# Altium schematic symbol library lcdtft_controller.SchLib: 10 symbols
Pins are listed as number, name and electrical type; pins without a type are passive.

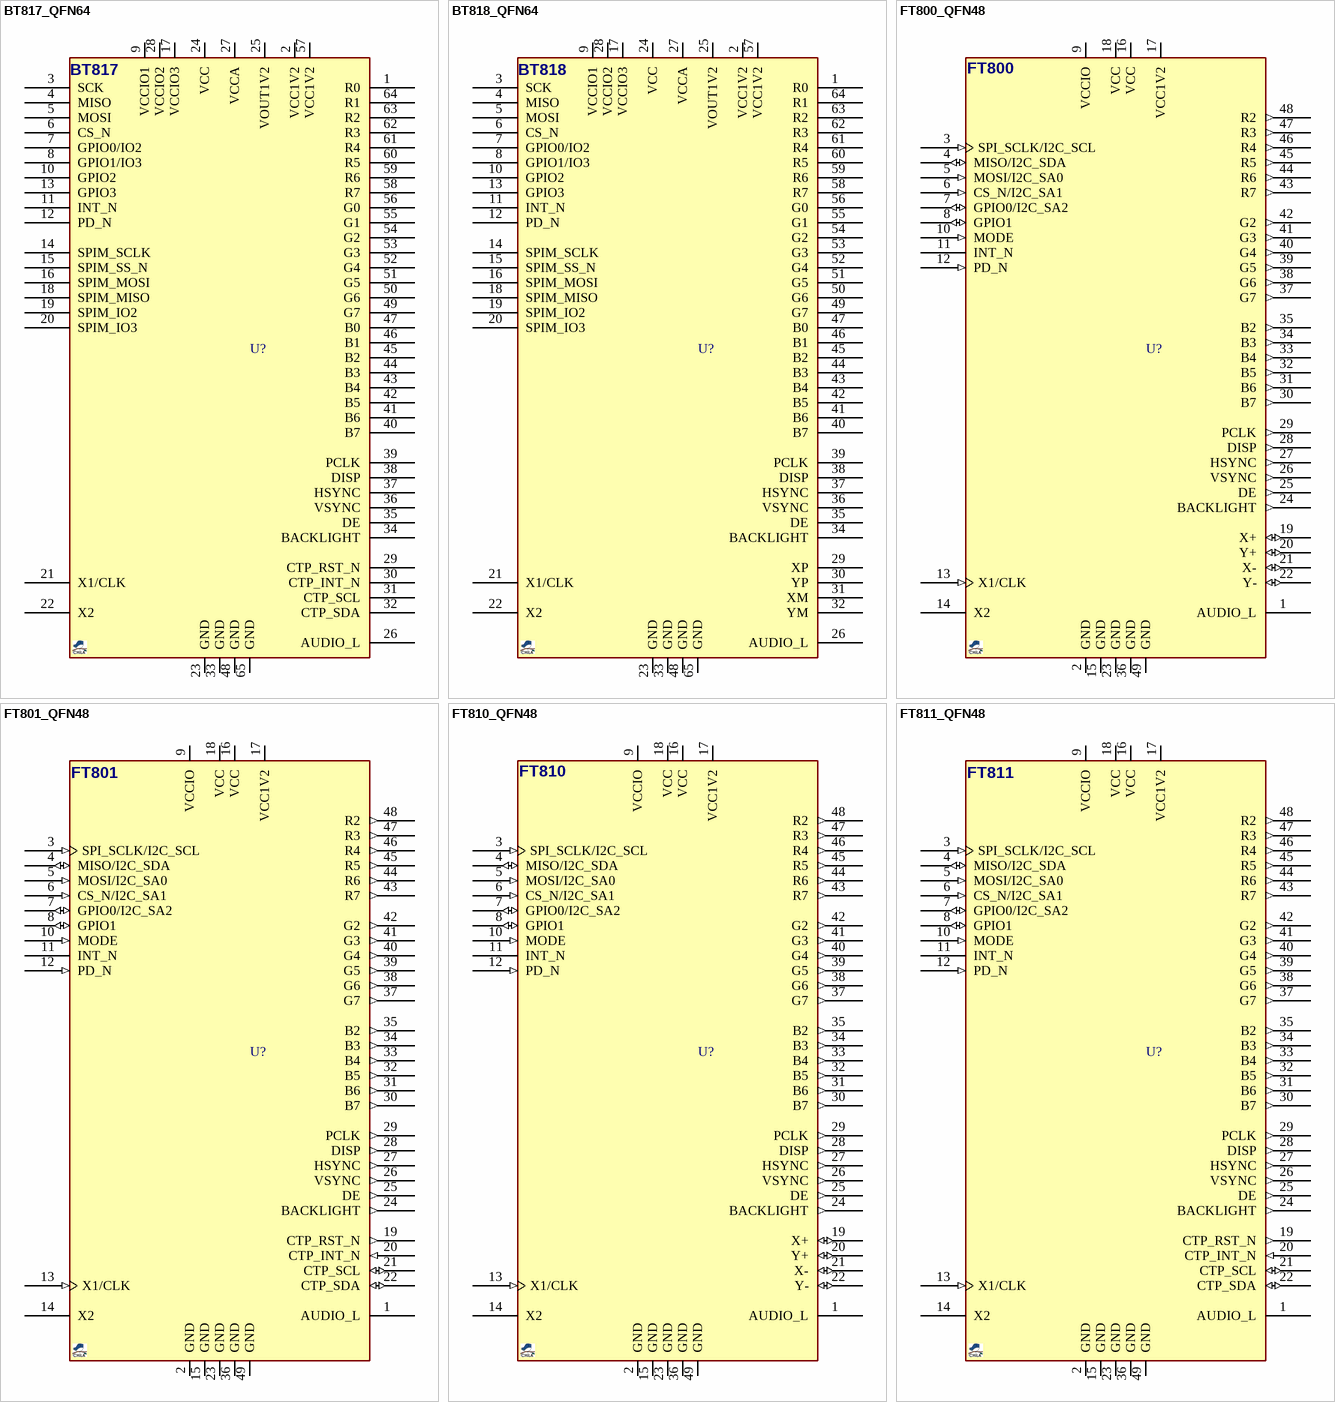
[diagram p0: symbols BT817_QFN64 to FT811_QFN48]

## BT817_QFN64
designator U?, comment BT817  (value not drawn)
LCD Display Controller, Embedded Video Engine, 1280X800, QFN-64; MANF: FTDI/Bridgetek; MANF_P#: BT817Q; PARAM2: 1.8~3.3Vcc; PARAM: -40~85°C; PRICE: 5$; VALUE: BT817
footprint QFN50_64T (LFCSP_VQ, MO-220-VMMD-4, MO-220-WNJR-5(JEDEC), RGC S-PQFP-N64 (TI), 9X9mm, 0.5mm)
pins: 1 R0, 2 VCC1V2, 3 SCK, 4 MISO, 5 MOSI, 6 CS_N, 7 GPIO0/IO2, 8 GPIO1/IO3, 9 VCCIO1, 10 GPIO2, 11 INT_N, 12 PD_N, 13 GPIO3, 14 SPIM_SCLK, 15 SPIM_SS_N, 16 SPIM_MOSI, 17 VCCIO3, 18 SPIM_MISO, 19 SPIM_IO2, 20 SPIM_IO3, 21 X1/CLK, 22 X2, 23 GND, 24 VCC, 25 VOUT1V2, 26 AUDIO_L, 27 VCCA, 28 VCCIO2, 29 CTP_RST_N, 30 CTP_INT_N, 31 CTP_SCL, 32 CTP_SDA, 33 GND, 34 BACKLIGHT, 35 DE, 36 VSYNC, 37 HSYNC, 38 DISP, 39 PCLK, 40 B7, 41 B6, 42 B5, 43 B4, 44 B3, 45 B2, 46 B1, 47 B0, 48 GND, 49 G7, 50 G6, 51 G5, 52 G4, 53 G3, 54 G2, 55 G1, 56 G0, 57 VCC1V2, 58 R7, 59 R6, 60 R5, 61 R4, 62 R3, 63 R2, 64 R1, 65 GND

## BT818_QFN64
designator U?, comment BT818  (value not drawn)
LCD Display Controller, Embedded Video Engine, 1280X800, QFN-64; MANF: FTDI/Bridgetek; MANF_P#: BT818Q; PARAM2: 1.8~3.3Vcc; PARAM: -40~85°C; PRICE: 5$; VALUE: BT818
footprint QFN50_64T (LFCSP_VQ, MO-220-VMMD-4, MO-220-WNJR-5(JEDEC), RGC S-PQFP-N64 (TI), 9X9mm, 0.5mm)
pins: 1 R0, 2 VCC1V2, 3 SCK, 4 MISO, 5 MOSI, 6 CS_N, 7 GPIO0/IO2, 8 GPIO1/IO3, 9 VCCIO1, 10 GPIO2, 11 INT_N, 12 PD_N, 13 GPIO3, 14 SPIM_SCLK, 15 SPIM_SS_N, 16 SPIM_MOSI, 17 VCCIO3, 18 SPIM_MISO, 19 SPIM_IO2, 20 SPIM_IO3, 21 X1/CLK, 22 X2, 23 GND, 24 VCC, 25 VOUT1V2, 26 AUDIO_L, 27 VCCA, 28 VCCIO2, 29 XP, 30 YP, 31 XM, 32 YM, 33 GND, 34 BACKLIGHT, 35 DE, 36 VSYNC, 37 HSYNC, 38 DISP, 39 PCLK, 40 B7, 41 B6, 42 B5, 43 B4, 44 B3, 45 B2, 46 B1, 47 B0, 48 GND, 49 G7, 50 G6, 51 G5, 52 G4, 53 G3, 54 G2, 55 G1, 56 G0, 57 VCC1V2, 58 R7, 59 R6, 60 R5, 61 R4, 62 R3, 63 R2, 64 R1, 65 GND

## FT800_QFN48
designator U?, comment FT800  (value not drawn)
LCD Display Controller, Embedded Video Engine, QFN-48; MANF: FTDI/Bridgetek; MANF_P#: FT800Q; PARAM2: 1.8~3.3Vcc; PARAM: -40~85°C; PRICE: 5$; VALUE: FT800
footprint QFN50_48T (CP-48, UFQFPN48, RGZ S-PQFP-N48, S-PWQFN-N48, MO-220-VKKD-2(JEDEC), 7X7mm, 0.5mm)
pins: 1 AUDIO_L (hiz) "Audio PWM out, push-pull output, 16mA sink/source current. Pad powered from pin VCC.", 2 GND (power) "Ground", 3 SPI_SCLK/I2C_SCL (in), 4 MISO/I2C_SDA (io), 5 MOSI/I2C_SA0 (in), 6 CS_N/I2C_SA1 (in), 7 GPIO0/I2C_SA2 (io), 8 GPIO1 (io) "General purpose input, output port. Push-pull, three-state output. 3.3V tolerant, 4/8/12/16mA sink/source current. Pad powered from pin VCCIO.", 9 VCCIO (power) "I/O power supply, connect a 0.1uF decoupling capacitor. Support 1.8V, 2.5V or 3.3V.", 10 MODE (in) "Host interface SPI(pull low) or I2C(pull up) mode select input, 3.3V tolerant. Pad powered from pin VCCIO.", 11 INT_N (hiz) "Host Interrupt, open drain output, active low, pull up to VCCIO through a 1kOhm ~10kOhm resistor.", 12 PD_N (in) "Power down input, active low, 3.3V tolerant, pull up to VCCIO through 47kOhm resistor and 100nF to ground. Pad powered from pin VCCIO.", 13 X1/CLK (in), 14 X2 "Crystal oscillator output; leave open if not used. Pad powered from pin VCC.", 15 GND (power) "Ground", 16 VCC (power) "3.3V power supply input.", 17 VCC1V2 (power) "1.2V regulator output pin. Connect a 4.7uF decoupling capacitor to GND.", 18 VCC (power) "3.3V power supply input.", 19 X+ (io) "Connect to X right electrode of 4-wire touch-screen panel. Pad powered from pin VCC.", 20 Y+ (io) "Connect to Y top electrode of 4-wire touch-screen panel. Pad powered from pin VCC.", 21 X- (io) "Connect to X left electrode of 4-wire touch-screen panel. Pad powered from pin VCC.", 22 Y- (io) "Connect to Y bottom electrode of 4-wire touch-screen panel. Pad powered from pin VCC.", 23 GND (power) "Ground", 24 BACKLIGHT (out) "LED Backlight brightness PWM control signal, push-pull output, 4/8mA sink/source current. Pad powered from pin VCC.", 25 DE (out) "LCD Data Enable, push-pull output, 4/8mA sink/source current. Pad powered from pin VCC.", 26 VSYNC (out) "LCD Vertical Sync, push-pull output, 4/8mA sink/source current. Pad powered from pin VCC.", 27 HSYNC (out) "LCD Horizontal Sync, push-pull output, 4/8mA sink/source current. Pad powered from pin VCC.", 28 DISP (out) "General purpose output pin for LCD Display Enable, push-pull output, 4/8mA sink/source current. Control by writing to Bit 7 of REG_GPIO register. Pad powered from pin VCC.", 29 PCLK (out) "LCD Pixel Clock, push-pull output, 4/8mA sink/source current. Pad powered from pin VCC.", 30 B7 (out) "Bit 7 of Blue RGB signals, push-pull output, 4/8mA sink/source current. Pad powered from pin VCC.", 31 B6 (out) "Bit 6 of Blue RGB signals, push-pull output, 4/8mA sink/source current. Pad powered from pin VCC.", 32 B5 (out) "Bit 5 of Blue RGB signals, push-pull output, 4/8mA sink/source current. Pad powered from pin VCC.", 33 B4 (out) "Bit 4 of Blue RGB signals, push-pull output, 4/8mA sink/source current. Pad powered from pin VCC.", 34 B3 (out) "Bit 3 of Blue RGB signals, push-pull output, 4/8mA sink/source current. Pad powered from pin VCC.", 35 B2 (out) "Bit 2 of Blue RGB signals, push-pull output, 4/8mA sink/source current. Pad powered from pin VCC.", 36 GND (power) "Ground", 37 G7 (out) "Bit 7 of Green RGB signals, push-pull output, 4/8mA sink/source current. Pad powered from pin VCC.", 38 G6 (out) "Bit 6 of Green RGB signals, push-pull output, 4/8mA sink/source current. Pad powered from pin VCC.", 39 G5 (out) "Bit 5 of Green RGB signals, push-pull output, 4/8mA sink/source current. Pad powered from pin VCC.", 40 G4 (out) "Bit 4 of Green RGB signals, push-pull output, 4/8mA sink/source current. Pad powered from pin VCC.", 41 G3 (out) "Bit 3 of Green RGB signals, push-pull output, 4/8mA sink/source current. Pad powered from pin VCC.", 42 G2 (out) "Bit 2 of Green RGB signals, push-pull output, 4/8mA sink/source current. Pad powered from pin VCC.", 43 R7 (out) "Bit 7 of Red RGB signals, push-pull output, 4/8mA sink/source current. Pad powered from pin VCC.", 44 R6 (out) "Bit 6 of Red RGB signals, push-pull output, 4/8mA sink/source current. Pad powered from pin VCC.", 45 R5 (out) "Bit 5 of Red RGB signals, push-pull output, 4/8mA sink/source current. Pad powered from pin VCC.", 46 R4 (out) "Bit 4 of Red RGB signals, push-pull output, 4/8mA sink/source current. Pad powered from pin VCC.", 47 R3 (out) "Bit 3 of Red RGB signals, push-pull output, 4/8mA sink/source current. Pad powered from pin VCC.", 48 R2 (out) "Bit 2 of Red RGB signals, push-pull output, 4/8mA sink/source current. Pad powered from pin VCC.", 49 GND (power) "Ground. Exposed thermal pad."

## FT801_QFN48
designator U?, comment FT801  (value not drawn)
LCD Display Controller, Embedded Video Engine, QFN-48; MANF: FTDI/Bridgetek; MANF_P#: FT801Q; PARAM2: 1.8~3.3Vcc; PARAM: -40~85°C; PRICE: 5$; VALUE: FT801
footprint QFN50_48T (CP-48, UFQFPN48, RGZ S-PQFP-N48, S-PWQFN-N48, MO-220-VKKD-2(JEDEC), 7X7mm, 0.5mm)
pins: 1 AUDIO_L (hiz) "Audio PWM out, push-pull output, 16mA sink/source current. Pad powered from pin VCC.", 2 GND (power) "Ground", 3 SPI_SCLK/I2C_SCL (in), 4 MISO/I2C_SDA (io), 5 MOSI/I2C_SA0 (in), 6 CS_N/I2C_SA1 (in), 7 GPIO0/I2C_SA2 (io), 8 GPIO1 (io) "General purpose input, output port. Push-pull, three-state output. 3.3V tolerant, 4/8/12/16mA sink/source current. Pad powered from pin VCCIO.", 9 VCCIO (power) "I/O power supply, connect a 0.1uF decoupling capacitor. Support 1.8V, 2.5V or 3.3V.", 10 MODE (in) "Host interface SPI(pull low) or I2C(pull up) mode select input, 3.3V tolerant. Pad powered from pin VCCIO.", 11 INT_N (hiz) "Host Interrupt, open drain output, active low, pull up to VCCIO through a 1kOhm ~10kOhm resistor.", 12 PD_N (in) "Power down input, active low, 3.3V tolerant, pull up to VCCIO through 47kOhm resistor and 100nF to ground. Pad powered from pin VCCIO.", 13 X1/CLK (in), 14 X2 "Crystal oscillator output; leave open if not used. Pad powered from pin VCC.", 15 GND (power) "Ground", 16 VCC (power) "3.3V power supply input.", 17 VCC1V2 (power) "1.2V regulator output pin. Connect a 4.7uF decoupling capacitor to GND.", 18 VCC (power) "3.3V power supply input.", 19 CTP_RST_N (out) "Connect to X right electrode of 4-wire touch-screen panel. Pad powered from pin VCC.", 20 CTP_INT_N (in) "Connect to Y top electrode of 4-wire touch-screen panel. Pad powered from pin VCC.", 21 CTP_SCL (io) "Connect to X left electrode of 4-wire touch-screen panel. Pad powered from pin VCC.", 22 CTP_SDA (io) "Connect to Y bottom electrode of 4-wire touch-screen panel. Pad powered from pin VCC.", 23 GND (power) "Ground", 24 BACKLIGHT (out) "LED Backlight brightness PWM control signal, push-pull output, 4/8mA sink/source current. Pad powered from pin VCC.", 25 DE (out) "LCD Data Enable, push-pull output, 4/8mA sink/source current. Pad powered from pin VCC.", 26 VSYNC (out) "LCD Vertical Sync, push-pull output, 4/8mA sink/source current. Pad powered from pin VCC.", 27 HSYNC (out) "LCD Horizontal Sync, push-pull output, 4/8mA sink/source current. Pad powered from pin VCC.", 28 DISP (out) "General purpose output pin for LCD Display Enable, push-pull output, 4/8mA sink/source current. Control by writing to Bit 7 of REG_GPIO register. Pad powered from pin VCC.", 29 PCLK (out) "LCD Pixel Clock, push-pull output, 4/8mA sink/source current. Pad powered from pin VCC.", 30 B7 (out) "Bit 7 of Blue RGB signals, push-pull output, 4/8mA sink/source current. Pad powered from pin VCC.", 31 B6 (out) "Bit 6 of Blue RGB signals, push-pull output, 4/8mA sink/source current. Pad powered from pin VCC.", 32 B5 (out) "Bit 5 of Blue RGB signals, push-pull output, 4/8mA sink/source current. Pad powered from pin VCC.", 33 B4 (out) "Bit 4 of Blue RGB signals, push-pull output, 4/8mA sink/source current. Pad powered from pin VCC.", 34 B3 (out) "Bit 3 of Blue RGB signals, push-pull output, 4/8mA sink/source current. Pad powered from pin VCC.", 35 B2 (out) "Bit 2 of Blue RGB signals, push-pull output, 4/8mA sink/source current. Pad powered from pin VCC.", 36 GND (power) "Ground", 37 G7 (out) "Bit 7 of Green RGB signals, push-pull output, 4/8mA sink/source current. Pad powered from pin VCC.", 38 G6 (out) "Bit 6 of Green RGB signals, push-pull output, 4/8mA sink/source current. Pad powered from pin VCC.", 39 G5 (out) "Bit 5 of Green RGB signals, push-pull output, 4/8mA sink/source current. Pad powered from pin VCC.", 40 G4 (out) "Bit 4 of Green RGB signals, push-pull output, 4/8mA sink/source current. Pad powered from pin VCC.", 41 G3 (out) "Bit 3 of Green RGB signals, push-pull output, 4/8mA sink/source current. Pad powered from pin VCC.", 42 G2 (out) "Bit 2 of Green RGB signals, push-pull output, 4/8mA sink/source current. Pad powered from pin VCC.", 43 R7 (out) "Bit 7 of Red RGB signals, push-pull output, 4/8mA sink/source current. Pad powered from pin VCC.", 44 R6 (out) "Bit 6 of Red RGB signals, push-pull output, 4/8mA sink/source current. Pad powered from pin VCC.", 45 R5 (out) "Bit 5 of Red RGB signals, push-pull output, 4/8mA sink/source current. Pad powered from pin VCC.", 46 R4 (out) "Bit 4 of Red RGB signals, push-pull output, 4/8mA sink/source current. Pad powered from pin VCC.", 47 R3 (out) "Bit 3 of Red RGB signals, push-pull output, 4/8mA sink/source current. Pad powered from pin VCC.", 48 R2 (out) "Bit 2 of Red RGB signals, push-pull output, 4/8mA sink/source current. Pad powered from pin VCC.", 49 GND (power) "Ground. Exposed thermal pad."

## FT810_QFN48
designator U?, comment FT810  (value not drawn)
LCD Display Controller, Embedded Video Engine, QFN-48; MANF: FTDI/Bridgetek; MANF_P#: FT810Q; PARAM2: 1.8~3.3Vcc; PARAM: -40~85°C; PRICE: 5$; VALUE: FT810
footprint QFN50_48T (CP-48, UFQFPN48, RGZ S-PQFP-N48, S-PWQFN-N48, MO-220-VKKD-2(JEDEC), 7X7mm, 0.5mm)
pins: 1 AUDIO_L (hiz) "Audio PWM out, push-pull output, 16mA sink/source current. Pad powered from pin VCC.", 2 GND (power) "Ground", 3 SPI_SCLK/I2C_SCL (in), 4 MISO/I2C_SDA (io), 5 MOSI/I2C_SA0 (in), 6 CS_N/I2C_SA1 (in), 7 GPIO0/I2C_SA2 (io), 8 GPIO1 (io) "General purpose input, output port. Push-pull, three-state output. 3.3V tolerant, 4/8/12/16mA sink/source current. Pad powered from pin VCCIO.", 9 VCCIO (power) "I/O power supply, connect a 0.1uF decoupling capacitor. Support 1.8V, 2.5V or 3.3V.", 10 MODE (in) "Host interface SPI(pull low) or I2C(pull up) mode select input, 3.3V tolerant. Pad powered from pin VCCIO.", 11 INT_N (hiz) "Host Interrupt, open drain output, active low, pull up to VCCIO through a 1kOhm ~10kOhm resistor.", 12 PD_N (in) "Power down input, active low, 3.3V tolerant, pull up to VCCIO through 47kOhm resistor and 100nF to ground. Pad powered from pin VCCIO.", 13 X1/CLK (in), 14 X2 "Crystal oscillator output; leave open if not used. Pad powered from pin VCC.", 15 GND (power) "Ground", 16 VCC (power) "3.3V power supply input.", 17 VCC1V2 (power) "1.2V regulator output pin. Connect a 4.7uF decoupling capacitor to GND.", 18 VCC (power) "3.3V power supply input.", 19 X+ (io) "Connect to X right electrode of 4-wire touch-screen panel. Pad powered from pin VCC.", 20 Y+ (io) "Connect to Y top electrode of 4-wire touch-screen panel. Pad powered from pin VCC.", 21 X- (io) "Connect to X left electrode of 4-wire touch-screen panel. Pad powered from pin VCC.", 22 Y- (io) "Connect to Y bottom electrode of 4-wire touch-screen panel. Pad powered from pin VCC.", 23 GND (power) "Ground", 24 BACKLIGHT (out) "LED Backlight brightness PWM control signal, push-pull output, 4/8mA sink/source current. Pad powered from pin VCC.", 25 DE (out) "LCD Data Enable, push-pull output, 4/8mA sink/source current. Pad powered from pin VCC.", 26 VSYNC (out) "LCD Vertical Sync, push-pull output, 4/8mA sink/source current. Pad powered from pin VCC.", 27 HSYNC (out) "LCD Horizontal Sync, push-pull output, 4/8mA sink/source current. Pad powered from pin VCC.", 28 DISP (out) "General purpose output pin for LCD Display Enable, push-pull output, 4/8mA sink/source current. Control by writing to Bit 7 of REG_GPIO register. Pad powered from pin VCC.", 29 PCLK (out) "LCD Pixel Clock, push-pull output, 4/8mA sink/source current. Pad powered from pin VCC.", 30 B7 (out) "Bit 7 of Blue RGB signals, push-pull output, 4/8mA sink/source current. Pad powered from pin VCC.", 31 B6 (out) "Bit 6 of Blue RGB signals, push-pull output, 4/8mA sink/source current. Pad powered from pin VCC.", 32 B5 (out) "Bit 5 of Blue RGB signals, push-pull output, 4/8mA sink/source current. Pad powered from pin VCC.", 33 B4 (out) "Bit 4 of Blue RGB signals, push-pull output, 4/8mA sink/source current. Pad powered from pin VCC.", 34 B3 (out) "Bit 3 of Blue RGB signals, push-pull output, 4/8mA sink/source current. Pad powered from pin VCC.", 35 B2 (out) "Bit 2 of Blue RGB signals, push-pull output, 4/8mA sink/source current. Pad powered from pin VCC.", 36 GND (power) "Ground", 37 G7 (out) "Bit 7 of Green RGB signals, push-pull output, 4/8mA sink/source current. Pad powered from pin VCC.", 38 G6 (out) "Bit 6 of Green RGB signals, push-pull output, 4/8mA sink/source current. Pad powered from pin VCC.", 39 G5 (out) "Bit 5 of Green RGB signals, push-pull output, 4/8mA sink/source current. Pad powered from pin VCC.", 40 G4 (out) "Bit 4 of Green RGB signals, push-pull output, 4/8mA sink/source current. Pad powered from pin VCC.", 41 G3 (out) "Bit 3 of Green RGB signals, push-pull output, 4/8mA sink/source current. Pad powered from pin VCC.", 42 G2 (out) "Bit 2 of Green RGB signals, push-pull output, 4/8mA sink/source current. Pad powered from pin VCC.", 43 R7 (out) "Bit 7 of Red RGB signals, push-pull output, 4/8mA sink/source current. Pad powered from pin VCC.", 44 R6 (out) "Bit 6 of Red RGB signals, push-pull output, 4/8mA sink/source current. Pad powered from pin VCC.", 45 R5 (out) "Bit 5 of Red RGB signals, push-pull output, 4/8mA sink/source current. Pad powered from pin VCC.", 46 R4 (out) "Bit 4 of Red RGB signals, push-pull output, 4/8mA sink/source current. Pad powered from pin VCC.", 47 R3 (out) "Bit 3 of Red RGB signals, push-pull output, 4/8mA sink/source current. Pad powered from pin VCC.", 48 R2 (out) "Bit 2 of Red RGB signals, push-pull output, 4/8mA sink/source current. Pad powered from pin VCC.", 49 GND (power) "Ground. Exposed thermal pad."

## FT811_QFN48
designator U?, comment FT811  (value not drawn)
LCD Display Controller, Embedded Video Engine, QFN-48; MANF: FTDI/Bridgetek; MANF_P#: FT811Q; PARAM2: 1.8~3.3Vcc; PARAM: -40~85°C; PRICE: 5$; VALUE: FT811
footprint QFN50_48T (CP-48, UFQFPN48, RGZ S-PQFP-N48, S-PWQFN-N48, MO-220-VKKD-2(JEDEC), 7X7mm, 0.5mm)
pins: 1 AUDIO_L (hiz) "Audio PWM out, push-pull output, 16mA sink/source current. Pad powered from pin VCC.", 2 GND (power) "Ground", 3 SPI_SCLK/I2C_SCL (in), 4 MISO/I2C_SDA (io), 5 MOSI/I2C_SA0 (in), 6 CS_N/I2C_SA1 (in), 7 GPIO0/I2C_SA2 (io), 8 GPIO1 (io) "General purpose input, output port. Push-pull, three-state output. 3.3V tolerant, 4/8/12/16mA sink/source current. Pad powered from pin VCCIO.", 9 VCCIO (power) "I/O power supply, connect a 0.1uF decoupling capacitor. Support 1.8V, 2.5V or 3.3V.", 10 MODE (in) "Host interface SPI(pull low) or I2C(pull up) mode select input, 3.3V tolerant. Pad powered from pin VCCIO.", 11 INT_N (hiz) "Host Interrupt, open drain output, active low, pull up to VCCIO through a 1kOhm ~10kOhm resistor.", 12 PD_N (in) "Power down input, active low, 3.3V tolerant, pull up to VCCIO through 47kOhm resistor and 100nF to ground. Pad powered from pin VCCIO.", 13 X1/CLK (in), 14 X2 "Crystal oscillator output; leave open if not used. Pad powered from pin VCC.", 15 GND (power) "Ground", 16 VCC (power) "3.3V power supply input.", 17 VCC1V2 (power) "1.2V regulator output pin. Connect a 4.7uF decoupling capacitor to GND.", 18 VCC (power) "3.3V power supply input.", 19 CTP_RST_N (out) "Connect to X right electrode of 4-wire touch-screen panel. Pad powered from pin VCC.", 20 CTP_INT_N (in) "Connect to Y top electrode of 4-wire touch-screen panel. Pad powered from pin VCC.", 21 CTP_SCL (io) "Connect to X left electrode of 4-wire touch-screen panel. Pad powered from pin VCC.", 22 CTP_SDA (io) "Connect to Y bottom electrode of 4-wire touch-screen panel. Pad powered from pin VCC.", 23 GND (power) "Ground", 24 BACKLIGHT (out) "LED Backlight brightness PWM control signal, push-pull output, 4/8mA sink/source current. Pad powered from pin VCC.", 25 DE (out) "LCD Data Enable, push-pull output, 4/8mA sink/source current. Pad powered from pin VCC.", 26 VSYNC (out) "LCD Vertical Sync, push-pull output, 4/8mA sink/source current. Pad powered from pin VCC.", 27 HSYNC (out) "LCD Horizontal Sync, push-pull output, 4/8mA sink/source current. Pad powered from pin VCC.", 28 DISP (out) "General purpose output pin for LCD Display Enable, push-pull output, 4/8mA sink/source current. Control by writing to Bit 7 of REG_GPIO register. Pad powered from pin VCC.", 29 PCLK (out) "LCD Pixel Clock, push-pull output, 4/8mA sink/source current. Pad powered from pin VCC.", 30 B7 (out) "Bit 7 of Blue RGB signals, push-pull output, 4/8mA sink/source current. Pad powered from pin VCC.", 31 B6 (out) "Bit 6 of Blue RGB signals, push-pull output, 4/8mA sink/source current. Pad powered from pin VCC.", 32 B5 (out) "Bit 5 of Blue RGB signals, push-pull output, 4/8mA sink/source current. Pad powered from pin VCC.", 33 B4 (out) "Bit 4 of Blue RGB signals, push-pull output, 4/8mA sink/source current. Pad powered from pin VCC.", 34 B3 (out) "Bit 3 of Blue RGB signals, push-pull output, 4/8mA sink/source current. Pad powered from pin VCC.", 35 B2 (out) "Bit 2 of Blue RGB signals, push-pull output, 4/8mA sink/source current. Pad powered from pin VCC.", 36 GND (power) "Ground", 37 G7 (out) "Bit 7 of Green RGB signals, push-pull output, 4/8mA sink/source current. Pad powered from pin VCC.", 38 G6 (out) "Bit 6 of Green RGB signals, push-pull output, 4/8mA sink/source current. Pad powered from pin VCC.", 39 G5 (out) "Bit 5 of Green RGB signals, push-pull output, 4/8mA sink/source current. Pad powered from pin VCC.", 40 G4 (out) "Bit 4 of Green RGB signals, push-pull output, 4/8mA sink/source current. Pad powered from pin VCC.", 41 G3 (out) "Bit 3 of Green RGB signals, push-pull output, 4/8mA sink/source current. Pad powered from pin VCC.", 42 G2 (out) "Bit 2 of Green RGB signals, push-pull output, 4/8mA sink/source current. Pad powered from pin VCC.", 43 R7 (out) "Bit 7 of Red RGB signals, push-pull output, 4/8mA sink/source current. Pad powered from pin VCC.", 44 R6 (out) "Bit 6 of Red RGB signals, push-pull output, 4/8mA sink/source current. Pad powered from pin VCC.", 45 R5 (out) "Bit 5 of Red RGB signals, push-pull output, 4/8mA sink/source current. Pad powered from pin VCC.", 46 R4 (out) "Bit 4 of Red RGB signals, push-pull output, 4/8mA sink/source current. Pad powered from pin VCC.", 47 R3 (out) "Bit 3 of Red RGB signals, push-pull output, 4/8mA sink/source current. Pad powered from pin VCC.", 48 R2 (out) "Bit 2 of Red RGB signals, push-pull output, 4/8mA sink/source current. Pad powered from pin VCC.", 49 GND (power) "Ground. Exposed thermal pad."

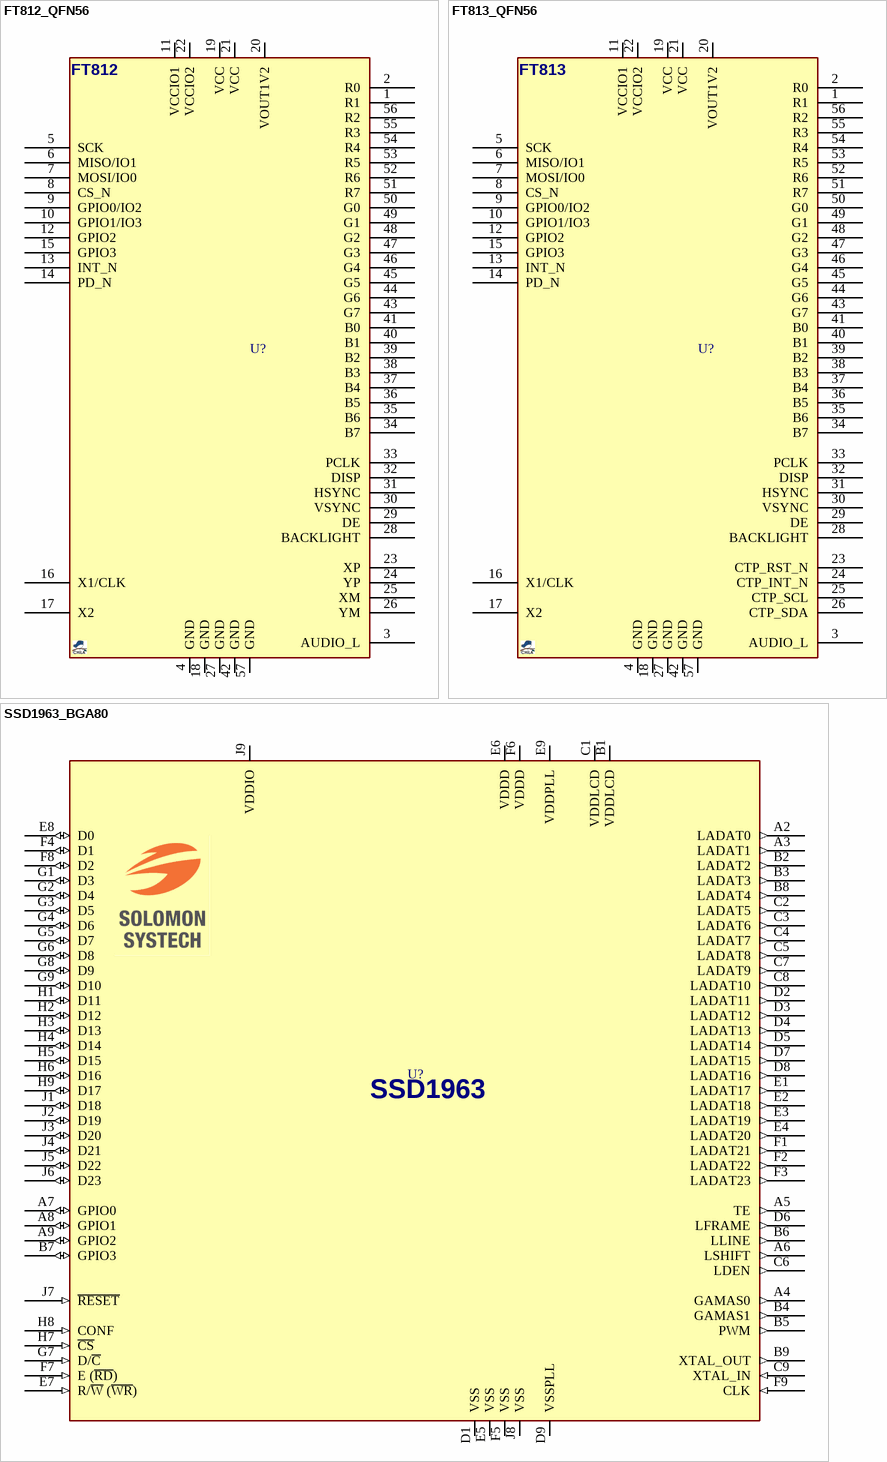
[diagram p1: symbols FT812_QFN56 to SSD1963_BGA80]

## FT812_QFN56
designator U?, comment FT812  (value not drawn)
LCD Display Controller, Embedded Video Engine, QFN-56; MANF: FTDI/Bridgetek; MANF_P#: FT812Q; PARAM2: 1.8~3.3Vcc; PARAM: -40~85°C; PRICE: 5$; VALUE: FT812
footprint QFN50_56T (QFN56, pitch: 0.5mm, 8x8mm)
pins: 1 R1, 2 R0, 3 AUDIO_L, 4 GND, 5 SCK, 6 MISO/IO1, 7 MOSI/IO0, 8 CS_N, 9 GPIO0/IO2, 10 GPIO1/IO3, 11 VCCIO1, 12 GPIO2, 13 INT_N, 14 PD_N, 15 GPIO3, 16 X1/CLK, 17 X2, 18 GND, 19 VCC, 20 VOUT1V2, 21 VCC, 22 VCCIO2, 23 XP, 24 YP, 25 XM, 26 YM, 27 GND, 28 BACKLIGHT, 29 DE, 30 VSYNC, 31 HSYNC, 32 DISP, 33 PCLK, 34 B7, 35 B6, 36 B5, 37 B4, 38 B3, 39 B2, 40 B1, 41 B0, 42 GND, 43 G7, 44 G6, 45 G5, 46 G4, 47 G3, 48 G2, 49 G1, 50 G0, 51 R7, 52 R6, 53 R5, 54 R4, 55 R3, 56 R2, 57 GND

## FT813_QFN56
designator U?, comment FT813  (value not drawn)
LCD Display Controller, Embedded Video Engine, QFN-56; MANF: FTDI/Bridgetek; MANF_P#: FT813Q; PARAM2: 1.8~3.3Vcc; PARAM: -40~85°C; PRICE: 5$; VALUE: FT813
footprint QFN50_56T (QFN56, pitch: 0.5mm, 8x8mm)
pins: 1 R1, 2 R0, 3 AUDIO_L, 4 GND, 5 SCK, 6 MISO/IO1, 7 MOSI/IO0, 8 CS_N, 9 GPIO0/IO2, 10 GPIO1/IO3, 11 VCCIO1, 12 GPIO2, 13 INT_N, 14 PD_N, 15 GPIO3, 16 X1/CLK, 17 X2, 18 GND, 19 VCC, 20 VOUT1V2, 21 VCC, 22 VCCIO2, 23 CTP_RST_N, 24 CTP_INT_N, 25 CTP_SCL, 26 CTP_SDA, 27 GND, 28 BACKLIGHT, 29 DE, 30 VSYNC, 31 HSYNC, 32 DISP, 33 PCLK, 34 B7, 35 B6, 36 B5, 37 B4, 38 B3, 39 B2, 40 B1, 41 B0, 42 GND, 43 G7, 44 G6, 45 G5, 46 G4, 47 G3, 48 G2, 49 G1, 50 G0, 51 R7, 52 R6, 53 R5, 54 R4, 55 R3, 56 R2, 57 GND

## SSD1963_BGA80
designator U?, comment SSD1963  (value not drawn)
LCD Display Controller, 1215KB Embedded Display SRAM; MANF: SOLOMON SYSTECH; MANF_P#: SSD1963G41; PARAM2: 1.2VC, 1.65~3.6VIO, 1.65~3.6VLCD; VALUE: SSD1963
footprint BGA65_81_S7 (BGA, 81-Leads, Body 7.00x7.00mmx1.10mm, Pitch 0.65mm)
pins: A2 LADAT0 (out) "RGB data", A3 LADAT1 (out) "RGB data", A4 GAMAS0 (out) "Gamma selection for panel", A5 TE (out) "Tearing effect", A6 LSHIFT (out) "Pixel clock (Pixel shift signal)", A7 GPIO0 (io) "These pins can be configured for display miscellaneous signals or as general purpos I/O. Default as Input", A8 GPIO1 (io) "These pins can be configured for display miscellaneous signals or as general purpos I/O. Default as Input", A9 GPIO2 (io) "These pins can be configured for display miscellaneous signals or as general purpos I/O. Default as Input", B1 VDDLCD (power) "Power Supply for LCD interface related pads (1.65V to 3.6V)", B2 LADAT2 (out) "RGB data", B3 LADAT3 (out) "RGB data", B4 GAMAS1 (out) "Gamma selection for panel", B5 PWM (out) "PWM output for backlight driver", B6 LLINE (out) "Horizontal sync (Line pulse)", B7 GPIO3 (io) "These pins can be configured for display miscellaneous signals or as general purpos I/O. Default as Input", B8 LADAT4 (out) "RGB data", B9 XTAL_OUT (out) "Crystal oscillator output. This pin should be floating if not used", C1 VDDLCD (power) "Power Supply for LCD interface related pads (1.65V to 3.6V)", C2 LADAT5 (out) "RGB data", C3 LADAT6 (out) "RGB data", C4 LADAT7 (out) "RGB data", C5 LADAT8 (out) "RGB data", C6 LDEN (out) "Data valid", C7 LADAT9 (out) "RGB data", C8 LADAT10 (out) "RGB data", C9 XTAL_IN (in) "Crystal oscillator input. This pin should be tied to VSS if not used", D1 VSS (power) "Ground For Internal Digital Circuit", D2 LADAT11 (out) "RGB data", D3 LADAT12 (out) "RGB data", D4 LADAT13 (out) "RGB data", D5 LADAT14 (out) "RGB data", D6 LFRAME (out) "Vertical sync (Frame pulse)", D7 LADAT15 (out) "RGB data", D8 LADAT16 (out) "RGB data", D9 VSSPLL (power) "Ground For Internal Analog Circuit and Analog I/O pads", E1 LADAT17 (out) "RGB data", E2 LADAT18 (out) "RGB data", E3 LADAT19 (out) "RGB data", E4 LADAT20 (out) "RGB data", E5 VSS (power) "Ground For Internal Digital Circuit", E6 VDDD (power) "Power Supply for internal digital circuit  (1.2V ± 0.1 V)", E7 R/~{W} (~{WR}) (in) "6800 mode:R/W# => 0:Write cycle => 1:read cycle ==> 8080 mode: WR# (write strobe signal)", E8 D0 (io) "Data bus. Pins not used should be floating", E9 VDDPLL (power) "Power Supply for internal analog circuit and analog I/O pads (1.2V ± 0.1 V)", F1 LADAT21 (out) "RGB data", F2 LADAT22 (out) "RGB data", F3 LADAT23 (out) "RGB data", F4 D1 (io) "Data bus. Pins not used should be floating", F5 VSS (power) "Ground For Internal Digital Circuit", F6 VDDD (power) "Power Supply for internal digital circuit  (1.2V ± 0.1 V)", F7 E (~{RD}) (in) "6800 mode: E (enable signal) ==> 8080 mode: RD# (read strobe signal)", F8 D2 (io) "Data bus. Pins not used should be floating", F9 CLK (in) "TTL clock input. this pin should be tied to VSS if TTL clock input is not used", G1 D3 (io) "Data bus. Pins not used should be floating", G2 D4 (io) "Data bus. Pins not used should be floating", G3 D5 (io) "Data bus. Pins not used should be floating", G4 D6 (io) "Data bus. Pins not used should be floating", G5 D7 (io) "Data bus. Pins not used should be floating", G6 D8 (io) "Data bus. Pins not used should be floating", G7 D/~{C} (in) "Data/Command select", G8 D9 (io) "Data bus. Pins not used should be floating", G9 D10 (io) "Data bus. Pins not used should be floating", H1 D11 (io) "Data bus. Pins not used should be floating", H2 D12 (io) "Data bus. Pins not used should be floating", H3 D13 (io) "Data bus. Pins not used should be floating", H4 D14 (io) "Data bus. Pins not used should be floating", H5 D15 (io) "Data bus. Pins not used should be floating", H6 D16 (io) "Data bus. Pins not used should be floating", H7 ~{CS} (in) "Chip select", H8 CONF (in) "MCU interface configuration => 0 : 6800 interface => 1 : 8080 Interface", H9 D17 (io) "Data bus. Pins not used should be floating", J1 D18 (io) "Data bus. Pins not used should be floating", J2 D19 (io) "Data bus. Pins not used should be floating", J3 D20 (io) "Data bus. Pins not used should be floating", J4 D21 (io) "Data bus. Pins not used should be floating", J5 D22 (io) "Data bus. Pins not used should be floating", J6 D23 (io) "Data bus. Pins not used should be floating", J7 ~{RESET} (in) "Master Synchronize reset", J8 VSS (power) "Ground For Internal Digital Circuit", J9 VDDIO (power) "Power Supply for Digital I/O pads (1.65V to 3.6V)"

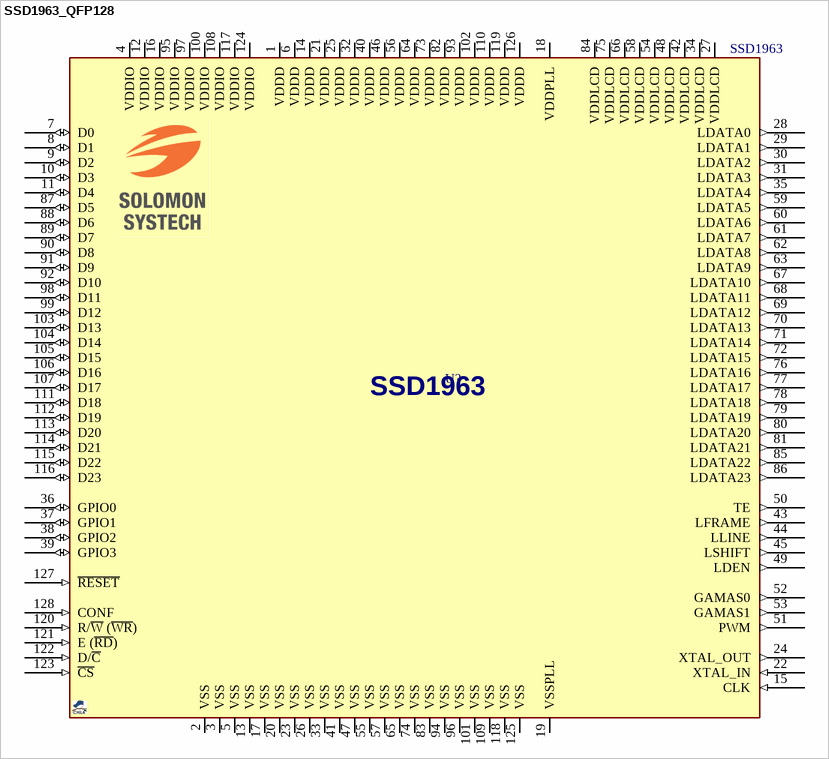
[diagram p2: symbol SSD1963_QFP128]

## SSD1963_QFP128
designator U?, comment SSD1963
LCD Display Controller, 1215KB Embedded Display SRAM; MANF: SOLOMON SYSTECH; MANF_P#: SSD1963QL9; PARAM2: 1.2VC, 1.65~3.6VIO, 1.65~3.6VLCD; VALUE: SSD1963
footprint QFG40_128 (LQFP128, PQFP-128, MS-026(JEDEC), 14X14mm, 0.4mm)
pins: 1 VDDD (power) "Power Supply for internal digital circuit  (1.2V ± 0.1 V)", 2 VSS (power) "Ground For Internal Digital Circuit", 3 VSS (power) "Ground For Internal Digital Circuit", 4 VDDIO (power) "Power Supply for Digital I/O pads (1.65V to 3.6V)", 5 VSS (power) "Ground For Internal Digital Circuit", 6 VDDD (power) "Power Supply for internal digital circuit  (1.2V ± 0.1 V)", 7 D0 (io) "Data bus. Pins not used should be floating", 8 D1 (io) "Data bus. Pins not used should be floating", 9 D2 (io) "Data bus. Pins not used should be floating", 10 D3 (io) "Data bus. Pins not used should be floating", 11 D4 (io) "Data bus. Pins not used should be floating", 12 VDDIO (power) "Power Supply for Digital I/O pads (1.65V to 3.6V)", 13 VSS (power) "Ground For Internal Digital Circuit", 14 VDDD (power) "Power Supply for internal digital circuit  (1.2V ± 0.1 V)", 15 CLK (in) "TTL clock input. this pin should be tied to VSS if TTL clock input is not used", 16 VDDIO (power) "Power Supply for Digital I/O pads (1.65V to 3.6V)", 17 VSS (power) "Ground For Internal Digital Circuit", 18 VDDPLL (power) "Power Supply for internal analog circuit and analog I/O pads (1.2V ± 0.1 V)", 19 VSSPLL (power) "Ground For Internal Analog Circuit and Analog I/O pads", 20 VSS (power) "Ground For Internal Digital Circuit", 21 VDDD (power) "Power Supply for internal digital circuit  (1.2V ± 0.1 V)", 22 XTAL_IN (in) "Crystal oscillator input. This pin should be tied to VSS if not used", 23 VSS (power) "Ground For Internal Digital Circuit", 24 XTAL_OUT (out) "Crystal oscillator output. This pin should be floating if not used", 25 VDDD (power) "Power Supply for internal digital circuit  (1.2V ± 0.1 V)", 26 VSS (power) "Ground For Internal Digital Circuit", 27 VDDLCD (power) "Power Supply for LCD interface related pads (1.65V to 3.6V)", 28 LDATA0 (out) "RGB Data", 29 LDATA1 (out) "RGB Data", 30 LDATA2 (out) "RGB Data", 31 LDATA3 (out) "RGB Data", 32 VDDD (power) "Power Supply for internal digital circuit  (1.2V ± 0.1 V)", 33 VSS (power) "Ground For Internal Digital Circuit", 34 VDDLCD (power) "Power Supply for LCD interface related pads (1.65V to 3.6V)", 35 LDATA4 (out) "RGB Data", 36 GPIO0 (io) "These pins can be configured for display miscellaneous signals or as general purpos I/O. Default as Input", 37 GPIO1 (io) "These pins can be configured for display miscellaneous signals or as general purpos I/O. Default as Input", 38 GPIO2 (io) "These pins can be configured for display miscellaneous signals or as general purpos I/O. Default as Input", 39 GPIO3 (io) "These pins can be configured for display miscellaneous signals or as general purpos I/O. Default as Input", 40 VDDD (power) "Power Supply for internal digital circuit  (1.2V ± 0.1 V)", 41 VSS (power) "Ground For Internal Digital Circuit", 42 VDDLCD (power) "Power Supply for LCD interface related pads (1.65V to 3.6V)", 43 LFRAME (out) "Vertical sync (Frame pulse)", 44 LLINE (out) "Horizontal sync (Line pulse)", 45 LSHIFT (out) "Pixel clock (Pixel shift signal)", 46 VDDD (power) "Power Supply for internal digital circuit  (1.2V ± 0.1 V)", 47 VSS (power) "Ground For Internal Digital Circuit", 48 VDDLCD (power) "Power Supply for LCD interface related pads (1.65V to 3.6V)", 49 LDEN (out) "Data valid", 50 TE (out) "Tearing effect", 51 PWM (out) "PWM output for backlight driver", 52 GAMAS0 (out) "Gamma selection for panel", 53 GAMAS1 (out) "Gamma selection for panel", 54 VDDLCD (power) "Power Supply for LCD interface related pads (1.65V to 3.6V)", 55 VSS (power) "Ground For Internal Digital Circuit", 56 VDDD (power) "Power Supply for internal digital circuit  (1.2V ± 0.1 V)", 57 VSS (power) "Ground For Internal Digital Circuit", 58 VDDLCD (power) "Power Supply for LCD interface related pads (1.65V to 3.6V)", 59 LDATA5 (out) "RGB Data", 60 LDATA6 (out) "RGB Data", 61 LDATA7 (out) "RGB Data", 62 LDATA8 (out) "RGB Data", 63 LDATA9 (out) "RGB Data", 64 VDDD (power) "Power Supply for internal digital circuit  (1.2V ± 0.1 V)", 65 VSS (power) "Ground For Internal Digital Circuit", 66 VDDLCD (power) "Power Supply for LCD interface related pads (1.65V to 3.6V)", 67 LDATA10 (out) "RGB Data", 68 LDATA11 (out) "RGB Data", 69 LDATA12 (out) "RGB Data", 70 LDATA13 (out) "RGB Data", 71 LDATA14 (out) "RGB Data", 72 LDATA15 (out) "RGB Data", 73 VDDD (power) "Power Supply for internal digital circuit  (1.2V ± 0.1 V)", 74 VSS (power) "Ground For Internal Digital Circuit", 75 VDDLCD (power) "Power Supply for LCD interface related pads (1.65V to 3.6V)", 76 LDATA16 (out) "RGB Data", 77 LDATA17 (out) "RGB Data", 78 LDATA18 (out) "RGB Data", 79 LDATA19 (out) "RGB Data", 80 LDATA20 (out) "RGB Data", 81 LDATA21 (out) "RGB Data", 82 VDDD (power) "Power Supply for internal digital circuit  (1.2V ± 0.1 V)", 83 VSS (power) "Ground For Internal Digital Circuit", 84 VDDLCD (power) "Power Supply for LCD interface related pads (1.65V to 3.6V)", 85 LDATA22 (out) "RGB Data", 86 LDATA23 (out) "RGB Data", 87 D5 (io) "Data bus. Pins not used should be floating", 88 D6 (io) "Data bus. Pins not used should be floating", 89 D7 (io) "Data bus. Pins not used should be floating", 90 D8 (io) "Data bus. Pins not used should be floating", 91 D9 (io) "Data bus. Pins not used should be floating", 92 D10 (io) "Data bus. Pins not used should be floating", 93 VDDD (power) "Power Supply for internal digital circuit  (1.2V ± 0.1 V)", 94 VSS (power) "Ground For Internal Digital Circuit", 95 VDDIO (power) "Power Supply for Digital I/O pads (1.65V to 3.6V)", 96 VSS (power) "Ground For Internal Digital Circuit", 97 VDDIO (power) "Power Supply for Digital I/O pads (1.65V to 3.6V)", 98 D11 (io) "Data bus. Pins not used should be floating", 99 D12 (io) "Data bus. Pins not used should be floating", 100 VDDIO (power) "Power Supply for Digital I/O pads (1.65V to 3.6V)", 101 VSS (power) "Ground For Internal Digital Circuit", 102 VDDD (power) "Power Supply for internal digital circuit  (1.2V ± 0.1 V)", 103 D13 (io) "Data bus. Pins not used should be floating", 104 D14 (io) "Data bus. Pins not used should be floating", 105 D15 (io) "Data bus. Pins not used should be floating", 106 D16 (io) "Data bus. Pins not used should be floating", 107 D17 (io) "Data bus. Pins not used should be floating", 108 VDDIO (power) "Power Supply for Digital I/O pads (1.65V to 3.6V)", 109 VSS (power) "Ground For Internal Digital Circuit", 110 VDDD (power) "Power Supply for internal digital circuit  (1.2V ± 0.1 V)", 111 D18 (io) "Data bus. Pins not used should be floating", 112 D19 (io) "Data bus. Pins not used should be floating", 113 D20 (io) "Data bus. Pins not used should be floating", 114 D21 (io) "Data bus. Pins not used should be floating", 115 D22 (io) "Data bus. Pins not used should be floating", 116 D23 (io) "Data bus. Pins not used should be floating", 117 VDDIO (power) "Power Supply for Digital I/O pads (1.65V to 3.6V)", 118 VSS (power) "Ground For Internal Digital Circuit", 119 VDDD (power) "Power Supply for internal digital circuit  (1.2V ± 0.1 V)", 120 R/~{W} (~{WR}) (in) "6800 mode:R/W# => 0:Write cycle => 1:read cycle ==> 8080 mode: WR# (write strobe signal)", 121 E (~{RD}) (in) "6800 mode: E (enable signal) ==> 8080 mode: RD# (read strobe signal)", 122 D/~{C} (in) "Data/Command select", 123 ~{CS} (in) "Chip select", 124 VDDIO (power) "Power Supply for Digital I/O pads (1.65V to 3.6V)", 125 VSS (power) "Ground For Internal Digital Circuit", 126 VDDD (power) "Power Supply for internal digital circuit  (1.2V ± 0.1 V)", 127 ~{RESET} (in) "Master Synchronize reset", 128 CONF (in) "MCU interface configuration => 0 : 6800 interface => 1 : 8080 Interface"